# EAGLE library part EPIC-CORE_A (library berkeley-epic)
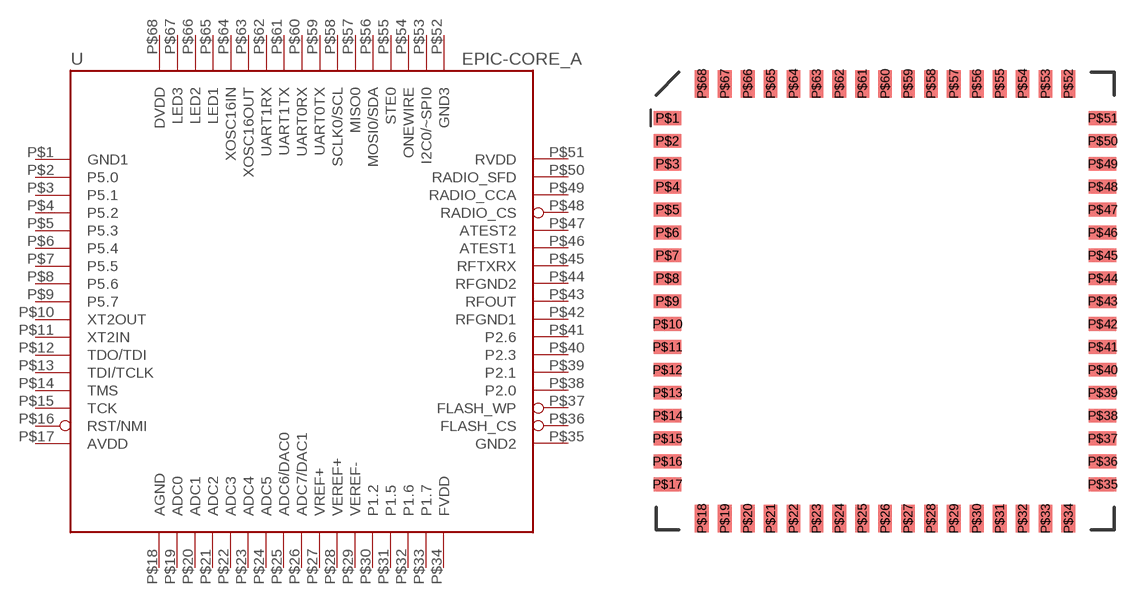
[diagram p0: symbol with the pads of EPIC-LCC68; footprint EPIC-LCC68]

Designator prefix U

## EPIC-CORE_A  [EPIC-LCC68]
P$1  GND1
P$2  P5.0
P$3  P5.1
P$4  P5.2
P$5  P5.3
P$6  P5.4
P$7  P5.5
P$8  P5.6
P$9  P5.7
P$10  XT2OUT
P$11  XT2IN
P$12  TDO/TDI
P$13  TDI/TCLK
P$14  TMS
P$15  TCK
P$16  RST/NMI
P$17  AVDD
P$18  AGND
P$19  ADC0
P$20  ADC1
P$21  ADC2
P$22  ADC3
P$23  ADC4
P$24  ADC5
P$25  ADC6/DAC0
P$26  ADC7/DAC1
P$27  VREF+
P$28  VEREF+
P$29  VEREF-
P$30  P1.2
P$31  P1.5
P$32  P1.6
P$33  P1.7
P$34  FVDD
P$35  GND2
P$36  FLASH_CS
P$37  FLASH_WP
P$38  P2.0
P$39  P2.1
P$40  P2.3
P$41  P2.6
P$42  RFGND1
P$43  RFOUT
P$44  RFGND2
P$45  RFTXRX
P$46  ATEST1
P$47  ATEST2
P$48  RADIO_CS
P$49  RADIO_CCA
P$50  RADIO_SFD
P$51  RVDD
P$52  GND3
P$53  I2C0/~SPI0
P$54  ONEWIRE
P$55  STE0
P$56  MOSI0/SDA
P$57  MISO0
P$58  SCLK0/SCL
P$59  UART0TX
P$60  UART0RX
P$61  UART1TX
P$62  UART1RX
P$63  XOSC16OUT
P$64  XOSC16IN
P$65  LED1
P$66  LED2
P$67  LED3
P$68  DVDD

## Footprint EPIC-LCC68 (pad centres in mm)
smd 1.524 x 0.762: P$1 -12.065,10.16; P$2 -12.065,8.89; P$3 -12.065,7.62; P$4 -12.065,6.35; P$5 -12.065,5.08; P$6 -12.065,3.81; P$7 -12.065,2.54; P$8 -12.065,1.27; P$9 -12.065,0; P$10 -12.065,-1.27; P$11 -12.065,-2.54; P$12 -12.065,-3.81; P$13 -12.065,-5.08; P$14 -12.065,-6.35; P$15 -12.065,-7.62; P$16 -12.065,-8.89; P$17 -12.065,-10.16; P$35 12.065,-10.16; P$36 12.065,-8.89; P$37 12.065,-7.62; P$38 12.065,-6.35; P$39 12.065,-5.08; P$40 12.065,-3.81; P$41 12.065,-2.54; P$42 12.065,-1.27; P$43 12.065,0; P$44 12.065,1.27; P$45 12.065,2.54; P$46 12.065,3.81; P$47 12.065,5.08; P$48 12.065,6.35; P$49 12.065,7.62; P$50 12.065,8.89; P$51 12.065,10.16
smd 0.762 x 1.524: P$18 -10.16,-12.065; P$19 -8.89,-12.065; P$20 -7.62,-12.065; P$21 -6.35,-12.065; P$22 -5.08,-12.065; P$23 -3.81,-12.065; P$24 -2.54,-12.065; P$25 -1.27,-12.065; P$26 0,-12.065; P$27 1.27,-12.065; P$28 2.54,-12.065; P$29 3.81,-12.065; P$30 5.08,-12.065; P$31 6.35,-12.065; P$32 7.62,-12.065; P$33 8.89,-12.065; P$34 10.16,-12.065; P$52 10.16,12.065; P$53 8.89,12.065; P$54 7.62,12.065; P$55 6.35,12.065; P$56 5.08,12.065; P$57 3.81,12.065; P$58 2.54,12.065; P$59 1.27,12.065; P$60 0,12.065; P$61 -1.27,12.065; P$62 -2.54,12.065; P$63 -3.81,12.065; P$64 -5.08,12.065; P$65 -6.35,12.065; P$66 -7.62,12.065; P$67 -8.89,12.065; P$68 -10.16,12.065